# Altium footprint library USB HUB 3.0.PcbLib: 20 footprints (part 2 of 2)
Each footprint in its own frame and in the unit in brackets; x right, y up, seen from the top. Pads: shape width x height; smd on the part's side, far side on the other; paste and mask are expansions set on the pad; w line width, h text height; cw(c..) or ccw(c..) is an arc to the next point about the centre after c.
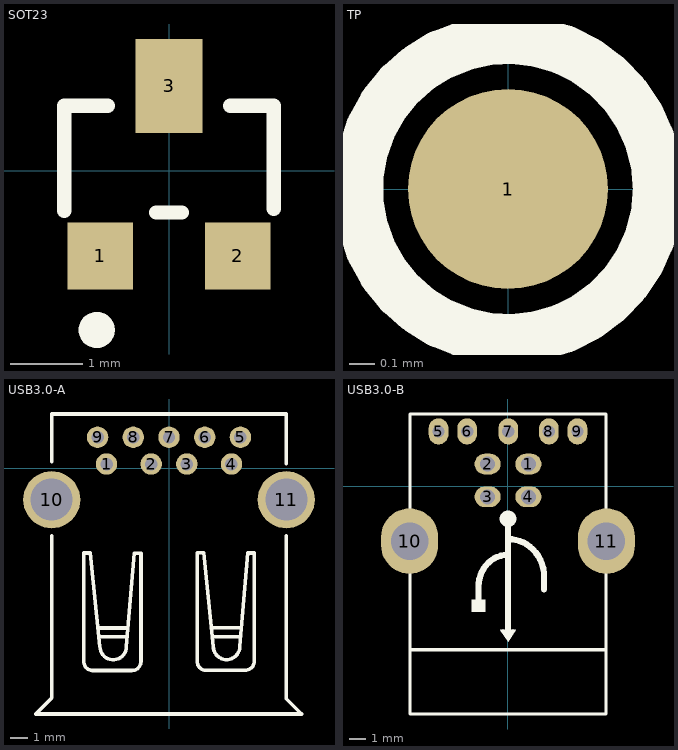
[diagram p1: the footprints below, top view; thin cyan lines are the x and y axes]

## SOT23 [mm]
height 1.1
pads (3):
  rect 0.91x0.93 smd: 1(-0.95,-1.175) 2(0.95,-1.175)
  rect 0.92x1.3 smd: 3(0,1.175)
Top Overlay:
  circle w0.25: c-1,-2.2 r0.125
  lines w0.2: -1.45,-0.55 -1.45,0.9 -0.85,0.9 ; -0.175,-0.575 0.175,-0.575 ; 0.85,0.9 1.45,0.9 1.45,-0.525
3D body "SOT-23-3.STEP": height 1, standoff 0, extent -1.5,-1.5 1.5,1.5

## TP [mm] "测试点"
pads (1):
  round 0.8 smd: 1(0,0)
Top Overlay:
  circle w0.2: c0,0 r0.6

## USB3.0-A [mm] "USB3.0-A口（母座）"
pads (11):
  round 1.2 hole 0.7: 1(-3.5,0.25) 2(-1,0.25) 3(1,0.25) 4(3.5,0.25) 5(4,1.75) 6(2,1.75) 7(0,1.75) 8(-2,1.75) 9(-4,1.75)
  round 3.2 hole 2.35: 10(-6.57,-1.75) 11(6.57,-1.75)
Top Overlay:
  lines w0.2: -6.57,-3.757 -6.57,-12.85 -7.47,-13.75 ; -6.57,0.384 -6.57,3.051 6.57,3.051 6.57,0.257 ; -3.959,-8.935 -2.32,-8.935 ; -3.933,-9.429 -2.359,-9.429 ; -3.868,-9.975 -4.41,-4.735 -4.765,-4.735 -4.765,-10.806 ccw(c-4.281,-10.83) -4.306,-11.314 -2.096,-11.314 ccw(c-2.085,-10.795) -1.566,-10.806 -1.566,-4.747 -1.946,-4.747 -2.384,-9.975 ; -3.867,-9.975 ccw(c-3.126,-9.975) -2.385,-9.975 ; 2.389,-8.922 4.028,-8.922 ; 2.415,-9.416 3.989,-9.416 ; 2.481,-9.962 1.939,-4.722 1.583,-4.722 1.583,-10.792 ccw(c2.067,-10.816) 2.043,-11.3 4.253,-11.301 ccw(c4.263,-10.782) 4.782,-10.792 4.782,-4.734 4.403,-4.734 3.964,-9.962 ; 2.482,-9.962 ccw(c3.222,-9.962) 3.963,-9.962 ; 6.57,-3.757 6.57,-12.89 7.33,-13.65 7.43,-13.75 -7.47,-13.75 ; -7.47,-13.75 -7.47,-13.75

## USB3.0-B [mm]
pads (11):
  oval 1.6x1.27 hole 0.92: 1(1.25,1.355) 2(-1.25,1.355) 3(-1.25,-0.645) 4(1.25,-0.645)
  oval 1.2x1.6 hole 0.75: 5(-4.25,3.355) 6(-2.5,3.355) 7(0.02,3.355) 8(2.5,3.355) 9(4.25,3.355)
  oval 3.5x4 hole 2.3: 10(-6.02,-3.355) 11(6.02,-3.355)
Top Overlay:
  rectangle: -2.234,-7.699 -1.371,-6.937
  lines w0.025: -0.457,-8.791 0,-9.426 0.457,-8.791 ; -0.432,-8.791 0,-9.401 0.432,-8.791 ; -0.406,-8.817 -0.025,-8.817 ; -0.229,-9.121 -0.152,-9.223 0,-9.452 0.152,-9.223 0.229,-9.121 ; 0.025,-8.817 0.406,-8.817 ; 0,-9.477 0,-8.791 ; 0,-9.477 0.483,-8.791 0,-8.791 ; 0,-9.477 0,-8.791 ; 0,-9.477 -0.483,-8.791 0,-8.791
  lines w0.051: -0.406,-8.842 -0.051,-8.842 ; -0.356,-8.842 -0.051,-9.299 ; -0.025,-9.375 -0.025,-8.994 ; 0.025,-9.375 0.025,-8.994 ; 0.051,-9.299 0.356,-8.842 ; 0.051,-8.842 0.406,-8.842
  lines w0.2: -0.305,-8.842 -0.076,-9.223 -0.076,-8.994 -0.203,-8.893 ; 0.203,-8.893 0.076,-8.994 0.076,-9.223 0.305,-8.842
  lines w0.203: -6,-10 6,-10 ; -6,-13.935 -6,-9.835 -6,4.421 6,4.418 6,-9.835 6,-13.935 -6,-13.935
  lines w0.381: -1.803,-7.14 -1.803,-6.119 cw(c0.209,-6.119) -1.214,-4.697 cw(c0,-5.911) 0,-4.194 ; 0,-8.867 0,-1.984 ; 0,-3.229 cw(c0,-5.375) 1.518,-3.857 cw(c-0.153,-5.528) 2.21,-5.528 2.21,-6.302
  lines w1.016: 0,-1.984 0.025,-1.984